# Altium footprint library X_3.2x5.PcbLib: 1 footprints
Each footprint in its own frame and in the unit in brackets; x right, y up, seen from the top. Pads: shape width x height; smd on the part's side, far side on the other; paste and mask are expansions set on the pad; w line width, h text height; cw(c..) or ccw(c..) is an arc to the next point about the centre after c.
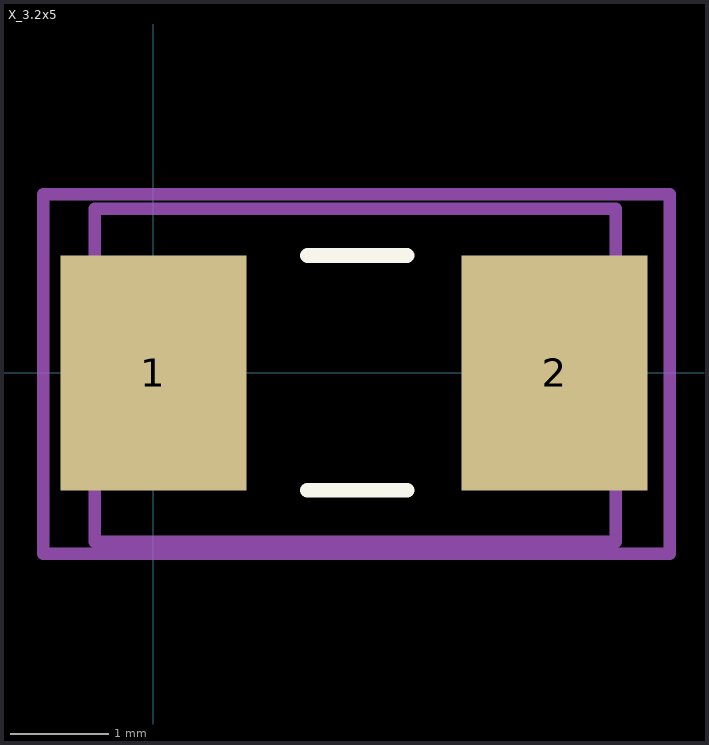
[diagram p0: the footprint, top view; thin cyan lines are the x and y axes]

## X_3.2x5 [mm] "Crystal resonator; 3.2mm x 2.5mm"
height 1.2
pads (2):
  rect 1.9x2.4 smd: 1(0,0) 2(4.1,0)
Top Overlay:
  lines w0.152: 1.575,-1.2 2.591,-1.2 ; 1.575,1.2 2.591,1.2
Top Assembly:
  lines w0.127: -0.6,-1.725 -0.6,1.675 4.725,1.675 4.725,-1.725 -0.6,-1.725
Top Courtyard:
  lines w0.127: -1.125,-1.85 -1.125,1.825 5.275,1.825 5.275,-1.85 -1.125,-1.85
3D body "User Library-ABM3.STEP": height 1.3, standoff 0, extent -0.55,-1.7 4.65,1.7